# Altium schematic symbol library XCL24x.SchLib: 2 symbols
Pins are listed as number, name and electrical type; pins without a type are passive.

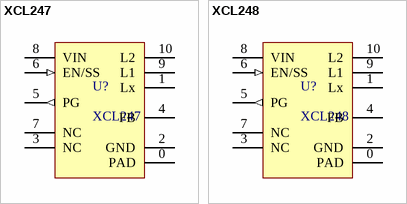
[diagram p0: symbols XCL247 to XCL248]

## XCL247
designator U?
pins: 0 PAD (power), 1 Lx (power), 2 GND (power), 3 NC (power), 4 FB (power), 5 PG (out), 6 EN/SS (in), 7 NC (power), 8 VIN (power), 9 L1 (power), 10 L2 (power)

## XCL248
designator U?
pins: 0 PAD (power), 1 Lx (power), 2 GND (power), 3 NC (power), 4 FB (power), 5 PG (out), 6 EN/SS (in), 7 NC (power), 8 VIN (power), 9 L1 (power), 10 L2 (power)